# EAGLE library part LM27761DSGT (library LM27761DSGT)
Low-Noise Regulated Inverter with Integrated LDO Source: Datasheet <http://www.ti.com/general/docs/lit/getliterature.tsp?genericPartNumber=LM27761&&fileType=pdf>
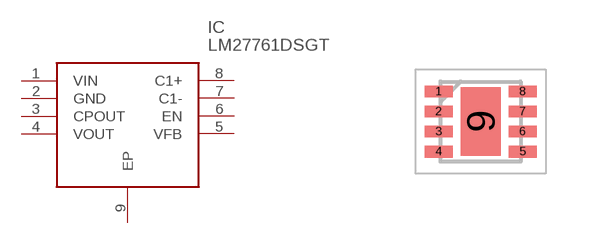
[diagram p0: symbol with the pads of SON50P200X200X80-9N; footprint SON50P200X200X80-9N]

Designator prefix IC

## LM27761DSGT (Description: Low-Noise Regulated Inverter with Integrated LDO; Height: 0.8mm; Manufacturer_Name: Texas Instruments; Manufacturer_Part_Number: LM27761DSGT; Mouser_Part_Number: 595-LM27761DSGT; Mouser_Price-Stock: https://www.mouser.co.uk/ProductDetail/Texas-Instruments/LM27761DSGT?qs=jK8VN%252BJp1h5Sdnd3ViQCNQ%3D%3D)  [SON50P200X200X80-9N]
1  VIN
2  GND
3  CPOUT
4  VOUT
5  VFB
6  EN
7  C1-
8  C1+
9  EP

## Footprint SON50P200X200X80-9N (pad centres in mm)
DSG0008A 1
smd 0.7 x 0.3: 1 -1.05,0.75; 2 -1.05,0.25; 3 -1.05,-0.25; 4 -1.05,-0.75; 5 1.05,-0.75; 6 1.05,-0.25; 7 1.05,0.25; 8 1.05,0.75
smd 1 x 1.7: 9 0,0